# Altium schematic symbol library IC_ATTINY13.SchLib: 1 symbol
Pins are listed as number, name and electrical type; pins without a type are passive.

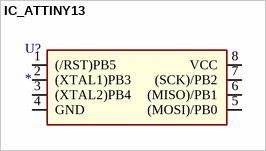
[diagram p0: symbol IC_ATTINY13]

## IC_ATTINY13
designator U?
pins: 1 (/RST)PB5, 2 (XTAL1)PB3, 3 (XTAL2)PB4, 4 GND, 5 (MOSI)/PB0, 6 (MISO)/PB1, 7 (SCK)/PB2, 8 VCC